# Altium footprint library PcbLib1.PcbLib: 18 footprints (part 1 of 2)
Each footprint in its own frame and in the unit in brackets; x right, y up, seen from the top. Pads: shape width x height; smd on the part's side, far side on the other; paste and mask are expansions set on the pad; w line width, h text height; cw(c..) or ccw(c..) is an arc to the next point about the centre after c.
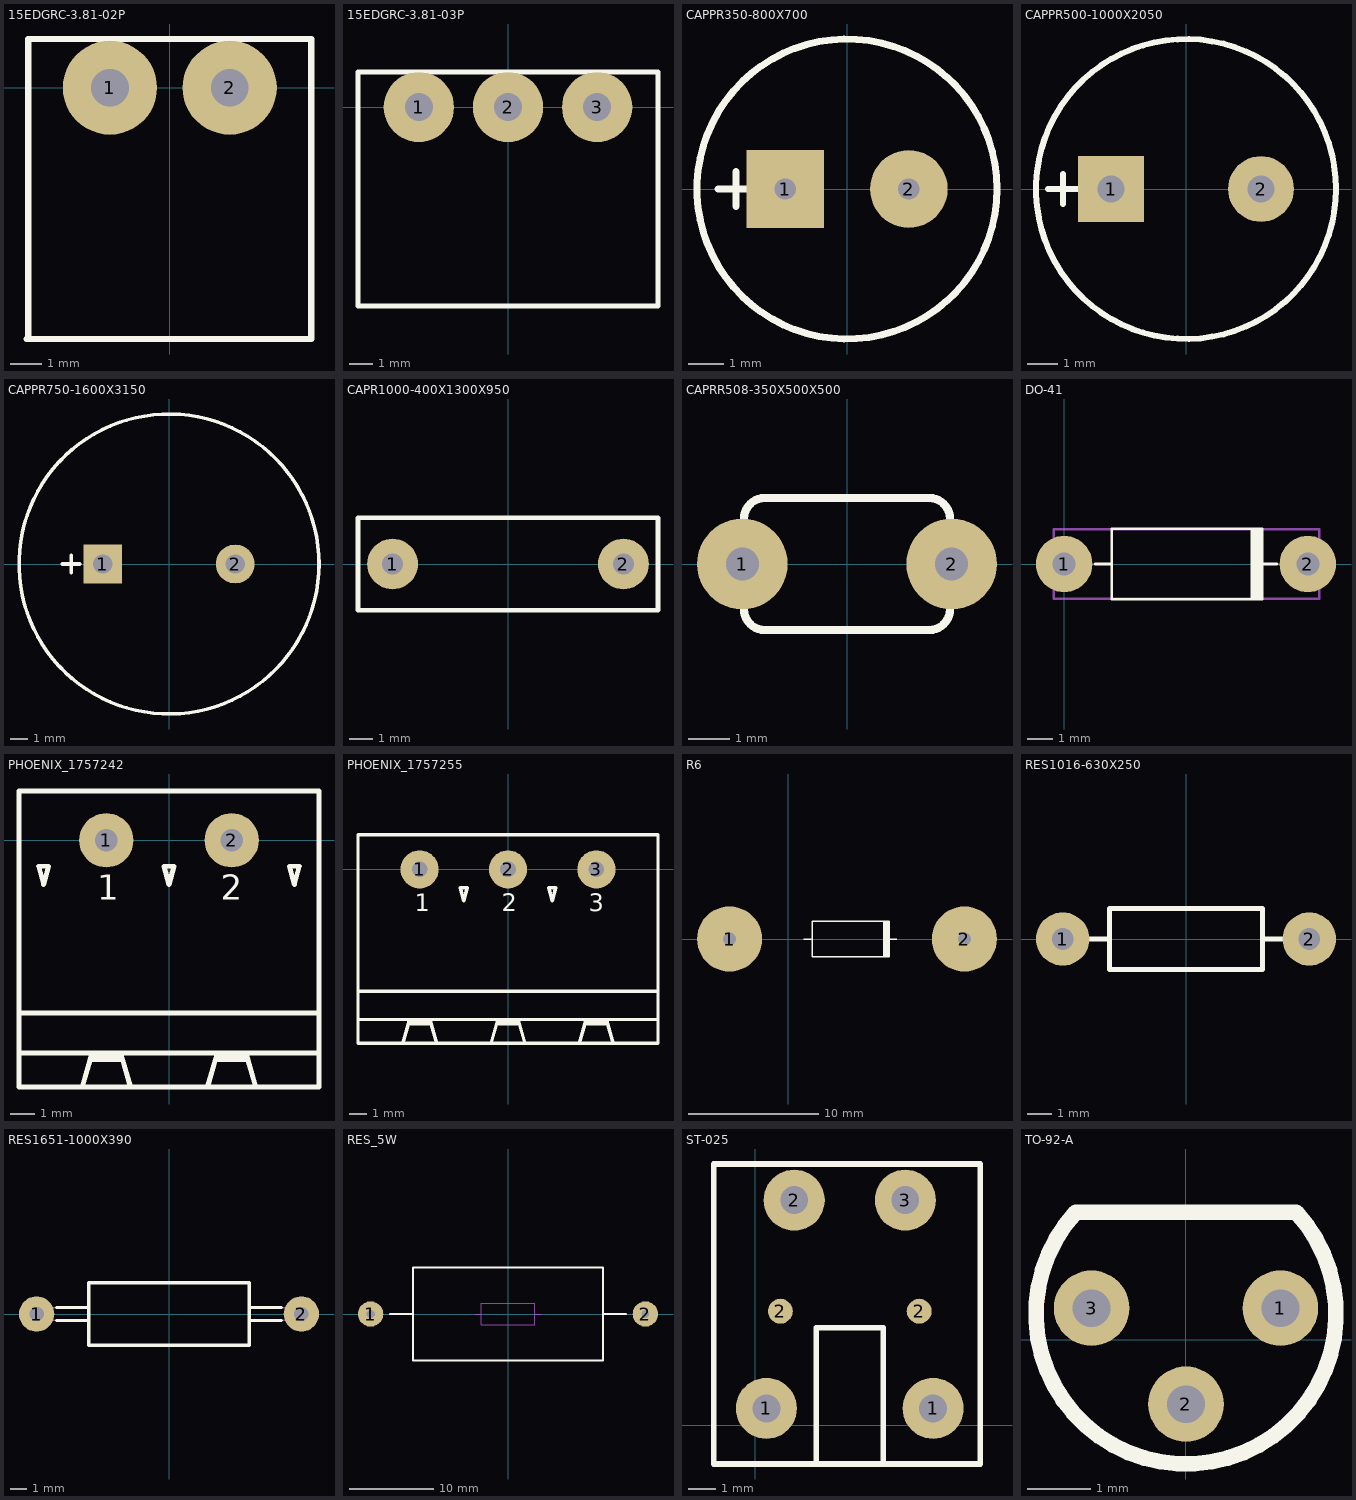
[diagram p0: the footprints below, top view; thin cyan lines are the x and y axes]

## 15EDGRC-3.81-02P [mm] "PCB Header, 8A, 160 V, Pitch: 3.81mm, 2 Positions, MCV Serie"
height 9.2
pads (2):
  round 3 hole 1.2: 1(-1.905,0) 2(1.905,0)
Top Overlay:
  lines w0.2: -4.558,-8 -2.305,-8 2.2,-8 4.453,-8 ; -4.505,-8 -4.505,1.55 ; -4.504,1.55 4.506,1.55 ; 4.505,-8 4.505,1.55
3D body "15EDGRC-3.81-02P-14-00A(H).stp": height 7.29, standoff -3.35, extent -4.205,-8 4.205,1.2

## 15EDGRC-3.81-03P [mm] "PCB Header, 8A, 160 V, Pitch: 3.81mm, 3 Positions, MCV Serie"
height 9.2
pads (3):
  round 3 hole 1.2: 1(-3.81,0) 2(0,0) 3(3.81,0)
Top Overlay:
  lines w0.2: -6.41,-8.5 6.41,-8.5 6.41,1.5 -6.41,1.5 -6.41,-8.5
3D body "15EDGRC-3.81-03P-14-00A(H).stp": height 7.29, standoff -3.35, extent -6.11,-8 6.11,1.2

## CAPPR350-800X700 [mm] "Capacitor, Radial, Pin spacing 3.5mm - Body Diameter 8mm X Body Height 7mm"
height 7
pads (2):
  rect 2.2x2.2 hole 0.6: 1(-1.75,0)
  round 2.2 hole 0.6: 2(1.75,0)
Top Overlay:
  circle w0.2: c0,0 r4.25
  lines w0.2: -3.65,0 -2.65,0 ; -3.15,-0.5 -3.15,0.5
Mechanical 13:
  circle w0.1: c0,0 r4.25
Mechanical 14:
  circle w0.1: c0,0 r4.25
  lines w0.1: -3.65,0 -2.65,0 ; -3.15,-0.5 -3.15,0.5
3D body "CAPPR350-800X700.stp": height 7, standoff -3.6, extent -4.259,-4.259 4.241,4.233

## CAPPR500-1000X2050 [mm] "Capacitor, Radial, Pin spacing 5.0mm - Body Diameter 10mm X Body Height 20.5mm"
height 20.5
pads (2):
  rect 2.2x2.2 hole 0.9: 1(-2.5,0)
  round 2.2 hole 0.9: 2(2.5,0)
Top Overlay:
  circle w0.2: c0,0 r5
  lines w0.2: -4.6,0 -3.6,0 ; -4.1,-0.5 -4.1,0.5
Mechanical 14:
  circle w0.1: c0,0 r5
  lines w0.1: -4.6,0 -3.6,0 ; -4.1,-0.5 -4.1,0.5
3D body "CAPPR500-1000X2050.stp": height 20.5, standoff -3.6, extent -5,-5 5,5

## CAPPR750-1600X3150 [mm] "Capacitor, Radial, Pin spacing 7.5mm - Body Diameter 16mm X Body  Height 31.5mm"
height 33
pads (2):
  rect 2.2x2.2 hole 1.1: 1(-3.75,0)
  round 2.2 hole 1.1: 2(3.75,0)
Top Overlay:
  circle w0.2: c0,0 r8.5
  lines w0.2: -6.05,0 -5.05,0 ; -5.55,-0.5 -5.55,0.5
Mechanical 13:
  circle w0.1: c0,0 r8.5
Mechanical 14:
  circle w0.1: c0,0 r8.5
  lines w0.1: -6.05,0 -5.05,0 ; -5.55,-0.5 -5.55,0.5
3D body "CAPPR750-1650X2700.stp": height 27, standoff -3.6, extent -8.25,-8.241 8.25,8.241

## CAPR1000-400X1300X950 [mm] "Capacitor Radial, Pin spacing 10mm - Body With 4mm X Body Length 13mm X Body Height 9.5mm"
height 9.5
pads (2):
  round 2.2 hole 0.9: 1(-5,0) 2(5,0)
Top Overlay:
  lines w0.2: -6.5,-2 6.5,-2 6.5,2 -6.5,2 -6.5,-2
Mechanical 13:
  lines w0.1: -6.5,-2 -6.5,2 6.5,2 6.5,-2 -6.5,-2
Mechanical 14:
  lines w0.1: -6.5,-2 6.5,-2 6.5,2 -6.5,2 -6.5,-2
3D body "CAPR1000-400X1300X950.stp": height 9.5, standoff -3.8, extent -6.5,-2 6.5,2

## CAPRR508-350X500X500 [mm] "Capacitor Radial Rounded, Pin spacing 5.08mm - Body With 3.2mm X Body Length 5.0mm X Body Height 5.0mm"
height 5
pads (2):
  round 2.2 hole 0.8: 1(-2.54,0) 2(2.54,0)
Top Overlay:
  lines w0.2: -2.5,-1.1 ccw(c-2,-1.1) -2,-1.6 2,-1.6 ccw(c2,-1.1) 2.5,-1.1 ; -2.5,1.1 cw(c-2,1.1) -2,1.6 2,1.6 cw(c2,1.1) 2.5,1.1
Mechanical 13:
  lines w0.1: -2.5,-1.1 ccw(c-2,-1.1) -2,-1.6 2,-1.6 ccw(c2,-1.1) 2.5,-1.1 2.5,1.1 ccw(c2,1.1) 2,1.6 -2,1.6 ccw(c-2,1.1) -2.5,1.1 -2.5,-1.1
Mechanical 14:
  lines w0.1: -2.5,-1.1 ccw(c-2,-1.1) -2,-1.6 2,-1.6 ccw(c2,-1.1) 2.5,-1.1 2.5,1.1 ccw(c2,1.1) 2,1.6 -2,1.6 ccw(c-2,1.1) -2.5,1.1 -2.5,-1.1
3D body "CAPRR508-350X500X500.stp": height 5, standoff -1.94, extent -2.79,-1.75 2.79,1.75

## DO-41 [mm]
pads (2):
  round 2.2 hole 0.9: 1(0,0) 2(9.5,0)
Top Overlay:
  rectangle: 7.275,-1.375 7.725,1.375
  lines w0.1: 1.2,0 1.85,0 ; 7.75,0 8.3,0 ; 1.85,-1.375 1.85,1.375 7.725,1.375 7.725,-1.375 1.85,-1.375
Mechanical 13:
  lines w0.1: -0.4,-1.35 -0.4,1.35 9.95,1.35 9.95,-1.35 -0.4,-1.35
3D body "User Library-DO-41_375mil.STEP": height 2.83, standoff -2.52, extent -0.392,-1.35 9.992,1.35

## PHOENIX_1757242 [mm] "PHOENIX MSTBA Serie, Pitch 5.08mm, 12A, 250V, 2 Positions Header"
height 8.6
pads (2):
  round 2.2 hole 0.9: 1(-2.54,0) 2(2.54,0)
Top Overlay:
  lines w0.2: -6.08,-8.626 6.08,-8.626 ; -6.08,-7 6.08,-7 ; -3.515,-10 -3.145,-8.7 -1.935,-8.7 -1.565,-10 ; -3.196,-8.88 -1.884,-8.88 ; -2.785,-8.7 -2.772,-8.75 -2.308,-8.75 -2.295,-8.7 ; 1.565,-10 1.935,-8.7 3.145,-8.7 3.515,-10 ; 1.884,-8.88 3.196,-8.88 ; 2.295,-8.7 2.308,-8.75 2.772,-8.75 2.785,-8.7 ; -6.08,-10 -6.08,2 6.08,2 6.08,-10 -6.08,-10 ; -5.281,-1.05 -4.879,-1.05 -5.08,-1.8 -5.281,-1.05 ; -0.201,-1.05 0.201,-1.05 0,-1.8 -0.201,-1.05 ; 4.879,-1.05 5.281,-1.05 5.08,-1.8 4.879,-1.05
  text "1" at -2.9,-2.4 h1
  text "2" at 2.1,-2.4 h1
Mechanical 14:
  lines w0.1: -6.08,-8.626 6.08,-8.626 ; -6.08,-7 6.08,-7 ; -3.515,-10 -3.145,-8.7 -1.935,-8.7 -1.565,-10 ; -3.196,-8.88 -1.884,-8.88 ; -2.785,-8.7 -2.772,-8.75 -2.308,-8.75 -2.295,-8.7 ; 1.565,-10 1.935,-8.7 3.145,-8.7 3.515,-10 ; 1.884,-8.88 3.196,-8.88 ; 2.295,-8.7 2.308,-8.75 2.772,-8.75 2.785,-8.7 ; -6.08,-10 -6.08,2 6.08,2 6.08,-10 -6.08,-10 ; -5.281,-1.05 -4.879,-1.05 -5.08,-1.8 -5.281,-1.05 ; -0.201,-1.05 0.201,-1.05 0,-1.8 -0.201,-1.05 ; 4.879,-1.05 5.281,-1.05 5.08,-1.8 4.879,-1.05
3D body "PHOENIX_1757242.stp": height 8.6, standoff -3, extent -6.08,-10 6.08,2.002

## PHOENIX_1757255 [mm] "PHOENIX MSTBA Serie, Pitch 5.08mm, 12A, 250V, 3 Positions Header"
height 8.6
pads (3):
  round 2.2 hole 0.9: 1(-5.08,0) 2(0,0) 3(5.08,0)
Top Overlay:
  lines w0.2: -8.62,-8.626 8.62,-8.626 ; -8.62,-7 8.62,-7 ; -6.055,-10 -5.685,-8.7 -4.475,-8.7 -4.105,-10 ; -5.736,-8.88 -4.424,-8.88 ; -5.325,-8.7 -5.312,-8.75 -4.848,-8.75 -4.835,-8.7 ; -0.975,-10 -0.605,-8.7 0.605,-8.7 0.975,-10 ; -0.656,-8.88 0.656,-8.88 ; -0.245,-8.7 -0.232,-8.75 0.232,-8.75 0.245,-8.7 ; 4.105,-10 4.475,-8.7 5.685,-8.7 6.055,-10 ; 4.424,-8.88 5.736,-8.88 ; 4.835,-8.7 4.848,-8.75 5.312,-8.75 5.325,-8.7 ; -8.62,-10 8.62,-10 8.62,2 -8.62,2 -8.62,-10 ; -2.741,-1.05 -2.54,-1.8 -2.339,-1.05 -2.741,-1.05 ; 2.339,-1.05 2.54,-1.8 2.741,-1.05 2.339,-1.05
  text "1" at -5.36,-2.4 h1
  text "2" at -0.36,-2.4 h1
  text "3" at 4.64,-2.4 h1
Mechanical 8:
  lines w0.1: -5.58,0 -5.08,0 ; -5.08,-0.5 -5.08,0 ; -5.08,0.5 -5.08,0 ; -4.58,0 -5.08,0 ; 4.58,0 5.08,0 ; 5.08,-0.5 5.08,0 ; 5.08,0.5 5.08,0 ; 5.58,0 5.08,0 ; 0,0 0,0.5 0,0 ; 0,0 0.5,0 0,0 ; 0,0 0,-0.5 0,0 ; 0,0 -0.5,0 0,0
Mechanical 14:
  lines w0.1: -8.62,-8.626 8.62,-8.626 ; -8.62,-7 8.62,-7 ; -6.055,-10 -5.685,-8.7 -4.475,-8.7 -4.105,-10 ; -5.736,-8.88 -4.424,-8.88 ; -5.325,-8.7 -5.312,-8.75 -4.848,-8.75 -4.835,-8.7 ; -0.975,-10 -0.605,-8.7 0.605,-8.7 0.975,-10 ; -0.656,-8.88 0.656,-8.88 ; -0.245,-8.7 -0.232,-8.75 0.232,-8.75 0.245,-8.7 ; 4.105,-10 4.475,-8.7 5.685,-8.7 6.055,-10 ; 4.424,-8.88 5.736,-8.88 ; 4.835,-8.7 4.848,-8.75 5.312,-8.75 5.325,-8.7 ; -8.62,-10 8.62,-10 8.62,2 -8.62,2 -8.62,-10 ; -2.741,-1.05 -2.54,-1.8 -2.339,-1.05 -2.741,-1.05 ; 2.339,-1.05 2.54,-1.8 2.741,-1.05 2.339,-1.05
3D body "PHOENIX_1757255.stp": height 8.6, standoff -3.5, extent -8.62,-10 8.62,2.002

## R6 [mm]
pads (2):
  round 5 hole 1: 1(-4.5,0) 2(13.5,0)
Top Overlay:
  rectangle: 7.275,-1.375 7.725,1.375
  lines w0.1: 1.2,0 1.85,0 ; 7.75,0 8.3,0 ; 1.85,-1.375 1.85,1.375 7.725,1.375 7.725,-1.375 1.85,-1.375
3D body "R6, axial.STEP": height 9.35, standoff -5, extent -5,-4.35 13.96,4.35

## RES1016-630X250 [mm] "Resistor, Axial, Pad spacing 10.16 mm - Body Lengh 6.3mm X Body Diameter 2.5mm"
height 2.5
pads (2):
  round 2.2 hole 0.9: 1(-5.08,0) 2(5.08,0)
Top Overlay:
  lines w0.2: -3.95,0 -3.15,0 ; 3.15,0 3.95,0 ; -3.15,-1.25 -3.15,1.25 3.15,1.25 3.15,-1.25 -3.15,-1.25
Mechanical 14:
  lines w0.1: -3.95,0 -3.15,0 ; 3.15,0 3.95,0 ; -3.15,-1.25 3.15,-1.25 3.15,1.25 -3.15,1.25 -3.15,-1.25
3D body "RES1016-630X250.stp": height 2.51, standoff -3.2, extent -5.38,-1.27 5.38,1.26

## RES1651-1000X390 [mm] "Resistor, Axial, Pad spacing 16.51mm - Body Lengh 10mm X Body Diameter 3.9mm"
height 3.9
pads (2):
  round 2.2 hole 0.9: 1(-8.255,0) 2(8.255,0)
Top Overlay:
  lines w0.2: -7.018,-0.4 -5,-0.4 ; -7.018,0.4 -5,0.4 ; 5,-0.4 7.018,-0.4 ; 5,0.4 7.018,0.4 ; -5,-1.95 -5,1.95 ; -5,-1.95 5,-1.95 ; -5,-1.95 5,-1.95 ; -5,-1.95 -5,1.95 ; -5,1.95 5,1.95 ; -5,1.95 5,1.95 ; 5,-1.95 5,1.95 ; 5,-1.95 5,1.95
Mechanical 14:
  lines w0.1: -5,-0.4 -8.255,-0.4 cw(c-8.255,0) -8.255,0.4 -5,0.4 ; 5,-0.4 8.255,-0.4 ccw(c8.255,0) 8.255,0.4 5,0.4 ; -5,-1.95 -5,1.95 5,1.95 5,-1.95 -5,-1.95
3D body "RES1651-1000X390.stp": height 3.9, standoff -3.8, extent -8.645,-1.95 8.645,1.95

## RES_5W [mm] "Resistor, Axial, Pad spacing 10.16 mm - Body Lengh 6.3mm X Body Diameter 2.5mm"
height 2.5
pads (2):
  round 3 hole 1: 1(-16.25,0)
  round 3 hole 0.9: 2(16.25,0)
Top Overlay:
  lines w0.2: -14,0 -11.25,0 ; 11.25,0 14,0 ; -11.25,-5.5 -11.25,5.5 11.25,5.5 11.25,-5.5 -11.25,-5.5
Mechanical 14:
  lines w0.1: -3.95,0 -3.15,0 ; 3.15,0 3.95,0 ; -3.15,-1.25 -3.15,1.25 3.15,1.25 3.15,-1.25 -3.15,-1.25
3D body "RESAR3250W80L2200T1000H900_5W.STEP": height 9, standoff -2.5, extent -16.65,-5 16.65,5

## ST-025 [mm]
pads (6):
  round 2.2 hole 1: 1(0.4,0.6) 1(6.4,0.6) 2(1.4,8.1) 3(5.4,8.1)
  round 0.9 all layers, no hole: 2(0.9,4.1) 2(5.9,4.1)
Top Overlay:
  lines w0.2: -1.5,-1.4 -1.5,9.4 8.1,9.4 8.1,-1.4 -1.5,-1.4 ; 2.2,-1.4 4.6,-1.4 4.6,3.5 2.2,3.5 2.2,-1.4
3D body "Audio Jack 3.5 mm  Cliff FC68125.step": height 6, standoff -2.81, extent -0.436,-5.8 7.036,9.1

## TO-92-A [mm]
height 10
pads (3):
  round 1.2 hole 0.6: 1(1.5,0.5) 2(0,-1.025) 3(-1.5,0.5)
Top Overlay:
  lines w0.25: -1.75,2.025 ccw(c0,0.408) 1.75,2.025 -1.75,2.025
Mechanical 13:
  lines w0.1: -1.75,2.025 ccw(c0,0.408) 1.75,2.025 -1.75,2.025
3D body "User Library-TO-92B.step": height 10, standoff -1.02, extent -2.4,-1.915 2.4,2.015